# Altium schematic symbol library Arduino.SchLib: 1 symbol
Pins are listed as number, name and electrical type; pins without a type are passive.

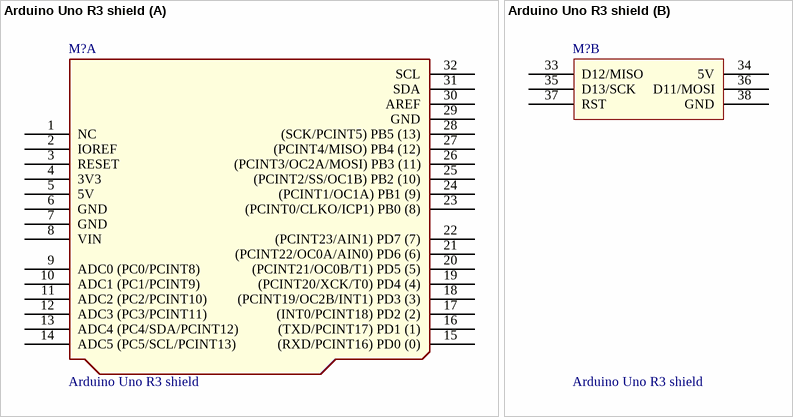
[diagram p0: symbol Arduino Uno R3 shield]

## Arduino Uno R3 shield
designator M?
Arduino Uno R3 shield pins connection
footprint Arduino Uno R3 Shield
part A pins: 1 NC, 2 IOREF, 3 RESET, 4 3V3, 5 5V, 6 GND (power), 7 GND (power), 8 VIN, 9 ADC0 (PC0/PCINT8), 10 ADC1 (PC1/PCINT9), 11 ADC2 (PC2/PCINT10), 12 ADC3 (PC3/PCINT11), 13 ADC4 (PC4/SDA/PCINT12), 14 ADC5 (PC5/SCL/PCINT13), 15 (RXD/PCINT16) PD0 (0), 16 (TXD/PCINT17) PD1 (1), 17 (INT0/PCINT18) PD2 (2), 18 (PCINT19/OC2B/INT1) PD3 (3), 19 (PCINT20/XCK/T0) PD4 (4), 20 (PCINT21/OC0B/T1) PD5 (5), 21 (PCINT22/OC0A/AIN0) PD6 (6), 22 (PCINT23/AIN1) PD7 (7), 23 (PCINT0/CLKO/ICP1) PB0 (8), 24 (PCINT1/OC1A) PB1 (9), 25 (PCINT2/SS/OC1B) PB2 (10), 26 (PCINT3/OC2A/MOSI) PB3 (11), 27 (PCINT4/MISO) PB4 (12), 28 (SCK/PCINT5) PB5 (13), 29 GND (power), 30 AREF, 31 SDA, 32 SCL
part B pins: 33 D12/MISO, 34 5V, 35 D13/SCK, 36 D11/MOSI, 37 RST, 38 GND